# EAGLE library part T3507-900 (library KVB-connectors)
8 Position Circular Connector Receptacle Female Sockets Solder Silver
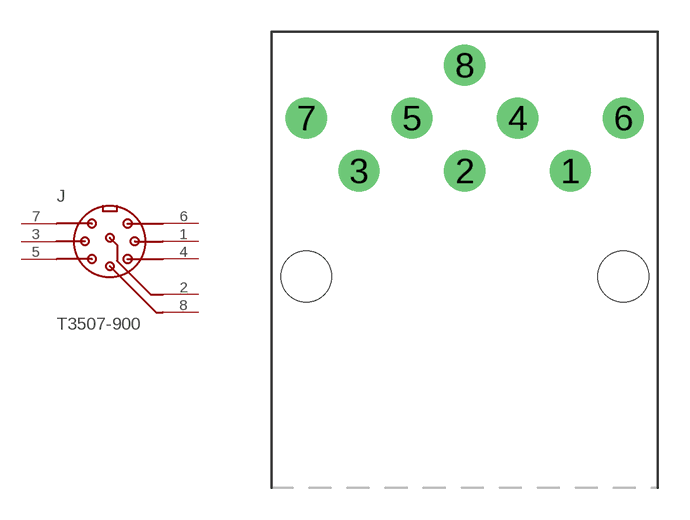
[diagram p29: symbol with the pads of T3507-900; footprint T3507-900]

Designator prefix J

## T3507-900 (MAN-PART_NUM: T3507-900; MANUFACTURER: Amphenol)  [T3507-900]
1  P$1
2  P$2
3  P$3
4  P$4
5  P$5
6  P$6
7  P$7
8  P$8

## Footprint T3507-900 (pad centres in mm)
drill 1.3: 1 5,15; 2 0,15; 3 -5,15; 4 2.5,17.5; 5 -2.5,17.5; 6 7.5,17.5; 7 -7.5,17.5; 8 0,20
hole 2.4 at -7.5,10
hole 2.4 at 7.5,10